# EAGLE library part HEADER10 (library usevolt)
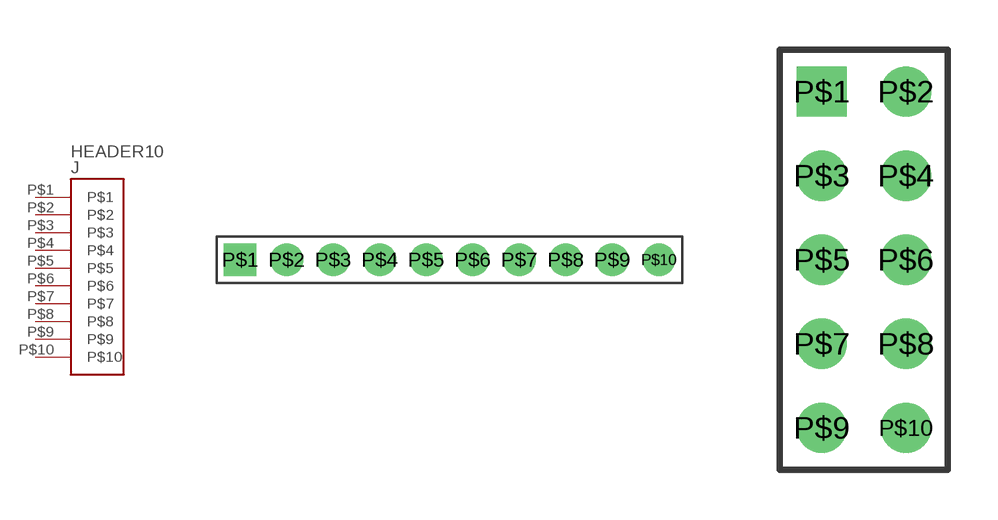
[diagram p6: symbol with the pads of HEADER10_1; footprints HEADER10_1, HEADER_5_2]

Designator prefix J

## HEADER1010_1_TH  [HEADER10_1]
P$1  P$1
P$2  P$2
P$3  P$3
P$4  P$4
P$5  P$5
P$6  P$6
P$7  P$7
P$8  P$8
P$9  P$9
P$10  P$10

## HEADER105_2_TH  [HEADER_5_2]
Pads as for HEADER10_1

## HEADER100.5_INCH_SMD  [HEADER_5_2_0.5_INCH]
Pads as for HEADER10_1

## HEADER102_5_SMD  [HEADER_5_2_SMD]
Pads as for HEADER10_1

## Footprint HEADER10_1 (pad centres in mm)
drill 1 pad 1.778 square: P$1 -11.43,0
drill 1 pad 1.778: P$2 -8.89,0; P$3 -6.35,0; P$4 -3.81,0; P$5 -1.27,0; P$6 1.27,0; P$7 3.81,0; P$8 6.35,0; P$9 8.89,0; P$10 11.43,0

## Footprint HEADER_5_2 (pad centres in mm)
drill 1.016 square: P$1 0,0
drill 1.016: P$2 2.54,0; P$3 0,-2.54; P$4 2.54,-2.54; P$5 0,-5.08; P$6 2.54,-5.08; P$7 0,-7.62; P$8 2.54,-7.62; P$9 0,-10.16; P$10 2.54,-10.16

## Footprint HEADER_5_2_0.5_INCH (pad centres in mm)
smd 1.905 x 0.635: P$1 -1.27,0; P$2 3.175,0; P$3 -1.27,-1.27; P$4 3.175,-1.27; P$5 -1.27,-2.54; P$6 3.175,-2.54; P$7 -1.27,-3.81; P$8 3.175,-3.81; P$9 -1.27,-5.08; P$10 3.175,-5.08

## Footprint HEADER_5_2_SMD (pad centres in mm)
smd 2.54 x 1.27: P$1 0,0; P$2 5.842,0; P$3 0,-2.54; P$4 5.842,-2.54; P$5 0,-5.08; P$6 5.842,-5.08; P$7 0,-7.62; P$8 5.842,-7.62; P$9 0,-10.16; P$10 5.842,-10.16